# Altium footprint library 二三极管 MOS.PCBLIB: 88 footprints (part 2 of 6)
Each footprint in its own frame and in the unit in brackets; x right, y up, seen from the top. Pads: shape width x height; smd on the part's side, far side on the other; paste and mask are expansions set on the pad; w line width, h text height; cw(c..) or ccw(c..) is an arc to the next point about the centre after c.
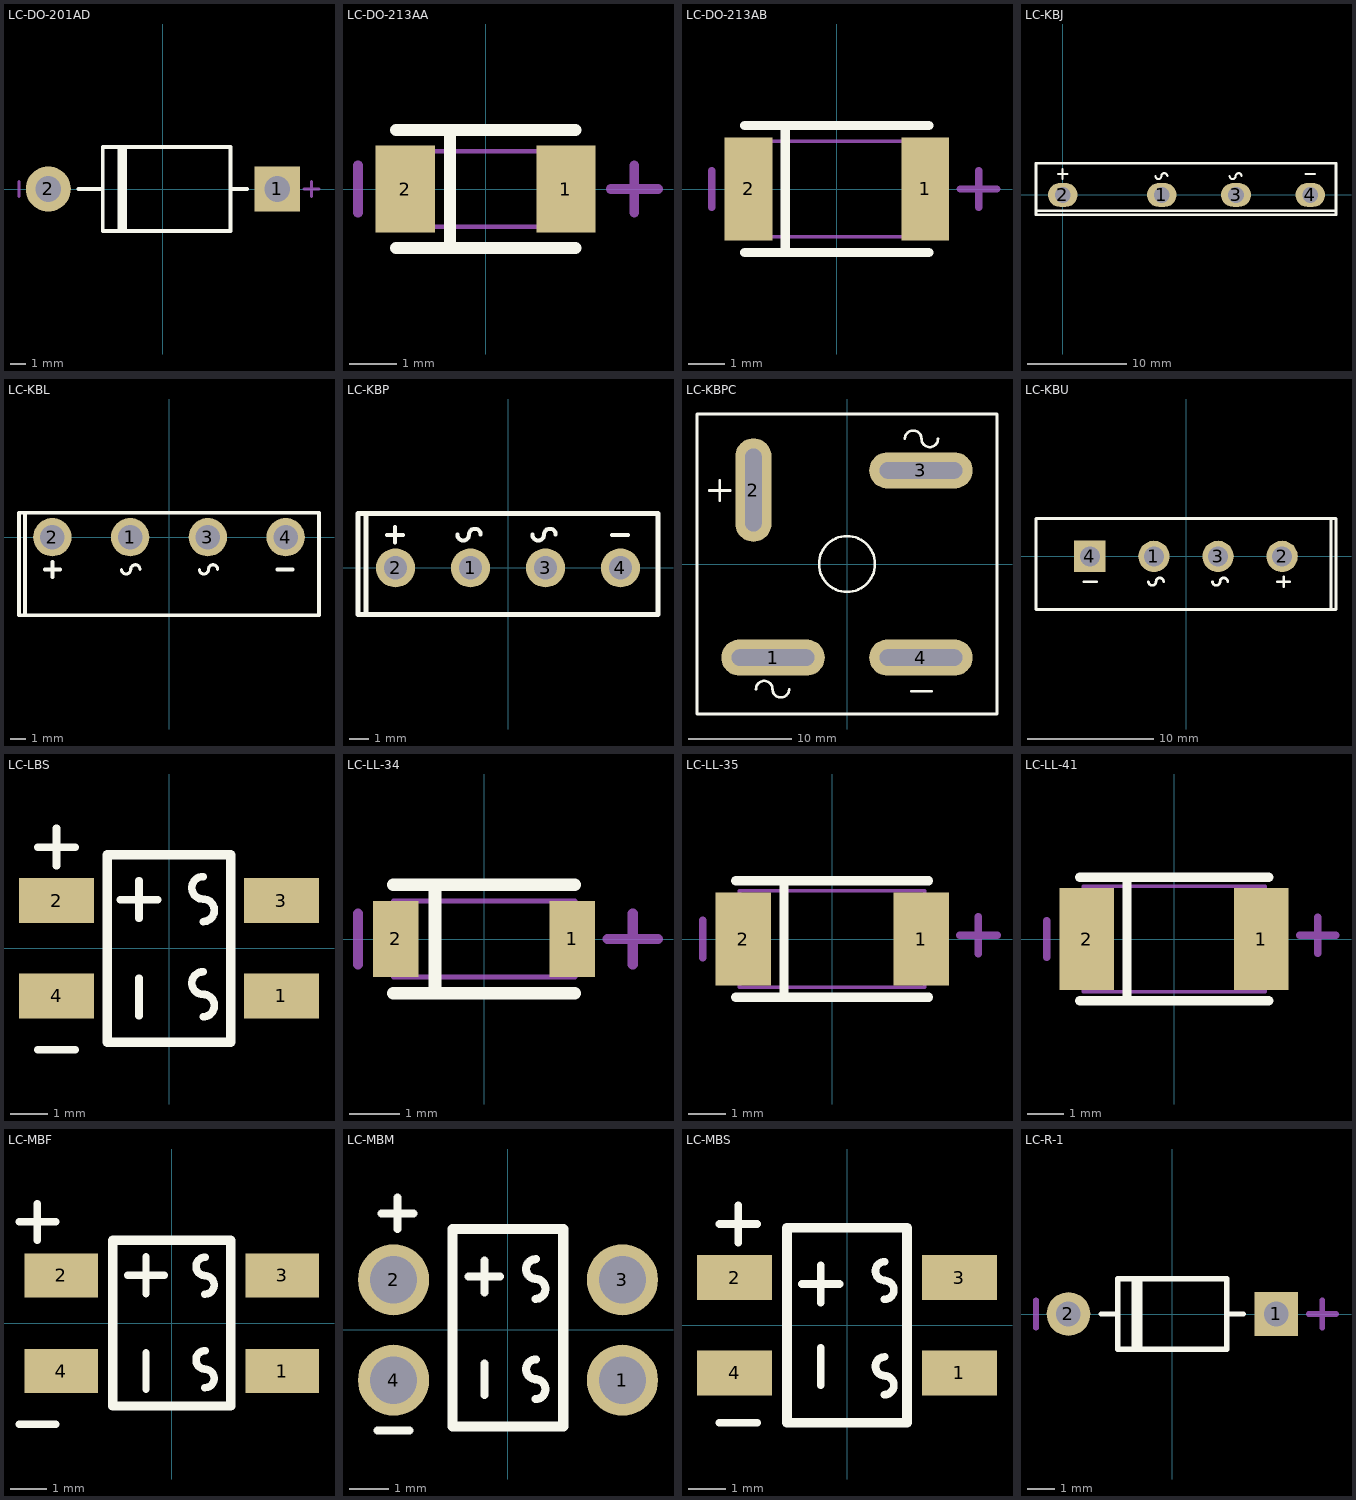
[diagram p1: the footprints below, top view; thin cyan lines are the x and y axes]

## LC-DO-201AD [mm]
pads (2):
  rect 3x3 hole 1.7: 1(7.62,0)
  round 3 hole 1.7: 2(-7.62,0)
TopOverlay:
  lines w0.254: -5.6,0 -4,0 ; -2.9,-2.8 -2.9,2.8 ; -2.7,-2.8 -2.7,2.8 ; -2.5,-2.8 -2.5,2.8 ; 4.5,0 5.6,0 ; -4,-2.8 -4,2.8 4.5,2.8 4.5,-2.8 -4,-2.8
Mechanical15:
  lines w0.203: -9.57,-0.5 -9.57,0.5 ; 9.4,0 10.4,0 ; 9.9,-0.5 9.9,0.5
3D body: height 6.6, standoff -5, extent -8.28,-2.8 8.28,2.8

## LC-DO-213AA [mm]
pads (2):
  rect 1.25x1.85 smd: 1(1.7,0) 2(-1.7,0)
TopOverlay:
  lines w0.254: -1.9,-1.25 1.9,-1.25 ; -1.9,1.25 1.9,1.25 ; -0.75,-1.25 -0.75,1.25
Mechanical13:
  lines w0.1: -1.8,-0.8 1.8,-0.8 1.8,0.8 -1.8,0.8 -1.8,-0.8
Mechanical15:
  lines w0.203: -2.7,-0.5 -2.7,0.5 ; 2.65,0 3.65,0 ; 3.15,-0.5 3.15,0.5

## LC-DO-213AB [mm]
pads (2):
  rect 1.3x2.8 smd: 1(2.4,0) 2(-2.4,0)
TopOverlay:
  lines w0.254: -2.5,-1.725 2.5,-1.725 ; -2.5,1.725 2.5,1.725 ; -1.4,-1.725 -1.4,1.7
Mechanical13:
  lines w0.1: -2.5,-1.3 -2.5,1.3 2.5,1.3 2.5,-1.3 -2.5,-1.3
Mechanical15:
  lines w0.203: -3.4,-0.5 -3.4,0.5 ; 3.35,0 4.35,0 ; 3.85,-0.5 3.85,0.5

## LC-KBJ [mm]
pads (4):
  oval 3x2.4 hole 1.6: 1(10,0) 2(0,0) 3(17.5,0) 4(25,0)
TopOverlay:
  lines w0.203: -0.5,2.1 0.5,2.1 ; 0,1.6 0,2.6 ; 9.36,1.9 ccw(c9.66,1.9) 9.96,1.9 cw(c10.26,1.9) 10.56,1.9 ; 16.86,1.9 ccw(c17.16,1.9) 17.46,1.9 cw(c17.76,1.9) 18.06,1.9 ; 24.5,2.1 25.5,2.1
  lines w0.254: -2.7,-1.6 27.6,-1.6 ; -2.7,-2 -2.7,3.2 27.6,3.2 27.6,-2 -2.7,-2

## LC-KBL [mm]
pads (4):
  round 2.5 hole 1.6: 1(-2.54,0) 2(-7.62,0) 3(2.54,0) 4(7.62,0)
TopOverlay:
  lines w0.203: -3.1,-2.1 ccw(c-2.8,-2.1) -2.5,-2.1 cw(c-2.2,-2.1) -1.9,-2.1 ; 1.98,-2.1 ccw(c2.28,-2.1) 2.58,-2.1 cw(c2.88,-2.1) 3.18,-2.1
  lines w0.254: -9.4,-5.1 -9.4,1.5 ; -8.12,-2.1 -7.12,-2.1 ; -7.62,-2.6 -7.62,-1.6 ; 7.08,-2.1 8.08,-2.1 ; -9.8,-5.1 -9.8,1.6 9.8,1.6 9.8,-5.1 -9.8,-5.1

## LC-KBP [mm]
pads (4):
  round 2 hole 1.2: 1(-1.925,0) 2(-5.775,0) 3(1.925,0) 4(5.775,0)
TopOverlay:
  lines w0.203: -6.2,1.7 -5.4,1.7 ; -5.8,1.3 -5.8,2.1 ; -2.6,1.708 ccw(c-2.3,1.708) -2,1.708 cw(c-1.7,1.708) -1.4,1.708 ; 1.25,1.708 ccw(c1.55,1.708) 1.85,1.708 cw(c2.15,1.708) 2.45,1.708 ; 5.35,1.7 6.15,1.7
  lines w0.254: -7.3,-2.4 -7.3,2.8 ; -7.7,-2.4 -7.7,2.8 7.7,2.8 7.7,-2.4 -7.7,-2.4

## LC-KBPC [mm]
pads (4):
  oval 10x3.5 hole 1.6 slot 8 at 0 deg: 1(-7.15,-9.05) 3(7.15,9.05) 4(7.15,-9.05)
  oval 3.5x10 hole 1.6 slot 8 at 90 deg: 2(-9.05,7.15)
TopOverlay:
  circle w0.254: c0,0 r2.7
  lines w0.254: -13.3,7.1 -11.3,7.1 ; -12.3,6.1 -12.3,8.1 ; -8.8,-12.1 cw(c-8,-12.1) -7.2,-12.1 ccw(c-6.4,-12.1) -5.6,-12.1 ; 5.6,12.1 cw(c6.4,12.1) 7.2,12.1 ccw(c8,12.1) 8.8,12.1 ; 6.2,-12.3 8.2,-12.3 ; -14.5,-14.5 -14.5,14.5 14.5,14.5 14.5,-14.5 -14.5,-14.5

## LC-KBU [mm]
pads (4):
  round 2.5 hole 1.6: 1(-2.54,0) 2(7.62,0) 3(2.54,0)
  rect 2.5x2.5 hole 1.6: 4(-7.62,0)
TopOverlay:
  lines w0.203: -8.1,-2 -7.1,-2 ; -2.98,-2 ccw(c-2.68,-2) -2.38,-2 cw(c-2.08,-2) -1.78,-2 ; 2.1,-2 ccw(c2.4,-2) 2.7,-2 cw(c3,-2) 3.3,-2 ; 7.24,-2 8.24,-2 ; 7.74,-2.4 7.74,-1.6
  lines w0.254: 11.5,-4.2 11.5,3 ; -11.9,-4.2 11.9,-4.2 11.9,3 -11.9,3 -11.9,-4.2

## LC-LBS [mm]
pads (4):
  rect 2x1.2 smd: 1(3,-1.27) 2(-3,1.27) 3(3,1.27) 4(-3,-1.27)
TopOverlay:
  lines w0.203: -3.5,-2.7 -2.5,-2.7 ; -3.5,2.7 -2.5,2.7 ; -3,2.2 -3,3.2 ; -1.3,1.3 -0.3,1.3 ; -0.8,-1.8 -0.8,-0.8 ; -0.8,0.8 -0.8,1.8 ; 0.908,-1.825 ccw(c0.908,-1.525) 0.908,-1.225 cw(c0.908,-0.925) 0.908,-0.625 ; 0.908,0.715 ccw(c0.908,1.015) 0.908,1.315 cw(c0.908,1.615) 0.908,1.915
  lines w0.254: -1.651,-2.5 1.651,-2.5 1.651,2.5 -1.651,2.5 -1.651,-2.5

## LC-LL-34 [mm]
pads (2):
  rect 0.9x1.5 smd: 1(1.75,0) 2(-1.75,0)
TopOverlay:
  lines w0.254: -1.8,-1.075 1.8,-1.075 ; -1.8,1.075 1.8,1.075 ; -0.975,-1.075 -0.975,1.075
Mechanical13:
  lines w0.1: -1.8,-0.75 1.8,-0.75 1.8,0.75 -1.8,0.75 -1.8,-0.75
Mechanical15:
  lines w0.203: -2.5,-0.5 -2.5,0.5 ; 2.45,0 3.45,0 ; 2.95,-0.5 2.95,0.5

## LC-LL-35 [mm]
pads (2):
  rect 1.5x2.5 smd: 1(2.4,0) 2(-2.4,0)
TopOverlay:
  lines w0.254: -2.6,-1.575 2.6,-1.575 ; -2.6,1.575 2.6,1.575 ; -1.3,-1.575 -1.3,1.575
Mechanical13:
  lines w0.1: -2.5,-1.3 2.5,-1.3 2.5,1.3 -2.5,1.3 -2.5,-1.3
Mechanical15:
  lines w0.203: -3.5,-0.5 -3.5,0.5 ; 3.45,0.1 4.45,0.1 ; 3.95,-0.4 3.95,0.6

## LC-LL-41 [mm]
pads (2):
  rect 1.5x2.8 smd: 1(2.4,0) 2(-2.4,0)
TopOverlay:
  lines w0.254: -2.6,-1.7 2.6,-1.7 ; -2.6,1.7 2.6,1.7 ; -1.3,-1.7 -1.3,1.7
Mechanical13:
  lines w0.1: -2.5,-1.45 -2.5,1.45 2.5,1.45 2.5,-1.45 -2.5,-1.45
Mechanical15:
  lines w0.203: -3.5,-0.5 -3.5,0.5 ; 3.45,0.1 4.45,0.1 ; 3.95,-0.4 3.95,0.6

## LC-MBF [mm]
pads (4):
  rect 2x1.2 smd: 1(3,-1.3) 2(-3,1.3) 3(3,1.3) 4(-3,-1.3)
TopOverlay:
  lines w0.203: -4.15,-2.75 -3.15,-2.75 ; -4.15,2.75 -3.15,2.75 ; -3.65,2.25 -3.65,3.25 ; -1.2,1.3 -0.2,1.3 ; -0.7,-1.8 -0.7,-0.8 ; -0.7,0.8 -0.7,1.8 ; 0.9,-1.75 ccw(c0.9,-1.5) 0.9,-1.25 ; 0.9,0.79 ccw(c0.9,1.04) 0.9,1.29 ; 0.908,-1.245 cw(c0.908,-0.995) 0.908,-0.745 ; 0.908,1.295 cw(c0.908,1.545) 0.908,1.795
  lines w0.254: -1.6,-2.25 -1.6,2.25 1.6,2.25 1.6,-2.25 -1.6,-2.25
3D body: height 1.5, standoff -0.03, extent -3.4,-2.497 3.5,2.497

## LC-MBM [mm]
pads (4):
  round 1.8 hole 1.2: 1(2.9,-1.27) 2(-2.9,1.27) 3(2.9,1.27) 4(-2.9,-1.27)
TopOverlay:
  lines w0.203: -3.3,-2.545 -2.5,-2.545 ; -3.2,2.955 -2.4,2.955 ; -2.8,2.555 -2.8,3.355 ; -1,1.355 -0.2,1.355 ; -0.6,-1.645 -0.6,-0.845 ; -0.6,0.955 -0.6,1.755 ; 0.7,-1.75 ccw(c0.7,-1.5) 0.7,-1.25 ; 0.7,0.79 ccw(c0.7,1.04) 0.7,1.29 ; 0.708,-1.245 cw(c0.708,-0.995) 0.708,-0.745 ; 0.708,1.295 cw(c0.708,1.545) 0.708,1.795
  lines w0.254: -1.4,-2.445 -1.4,2.555 1.4,2.555 1.4,-2.445 -1.4,-2.445

## LC-MBS [mm]
pads (4):
  rect 2x1.2 smd: 1(3,-1.27) 2(-3,1.27) 3(3,1.27) 4(-3,-1.27)
TopOverlay:
  lines w0.203: -3.4,-2.6 -2.4,-2.6 ; -3.4,2.7 -2.4,2.7 ; -2.9,2.2 -2.9,3.2 ; -1.2,1.1 -0.2,1.1 ; -0.7,-1.6 -0.7,-0.6 ; -0.7,0.6 -0.7,1.6 ; 1,-1.85 ccw(c1,-1.6) 1,-1.35 ; 1,0.69 ccw(c1,0.94) 1,1.19 ; 1.008,-1.345 cw(c1.008,-1.095) 1.008,-0.845 ; 1.008,1.195 cw(c1.008,1.445) 1.008,1.695
  lines w0.254: -1.6,-2.6 -1.6,2.6 1.6,2.6 1.6,-2.6 -1.6,-2.6

## LC-R-1 [mm]
pads (2):
  rect 1.6x1.6 hole 0.9: 1(3.81,0)
  round 1.6 hole 0.9: 2(-3.81,0)
TopOverlay:
  lines w0.2: -2.6,0 -2,0 ; -1.4,-1.3 -1.4,1.3 -2,1.3 ; -1.2,-1.3 -1.2,1.3 ; 2,0 2.6,0 ; -2,1.3 -2,-1.3 2,-1.3 2,1.3 -2,1.3
Mechanical15:
  lines w0.203: -5,-0.5 -5,0.5 ; 5,0 6,0 ; 5.5,-0.5 5.5,0.5